# Altium footprint library M80-4001042.PcbLib: 1 footprints
Each footprint in its own frame and in the unit in brackets; x right, y up, seen from the top. Pads: shape width x height; smd on the part's side, far side on the other; paste and mask are expansions set on the pad; w line width, h text height; cw(c..) or ccw(c..) is an arc to the next point about the centre after c.
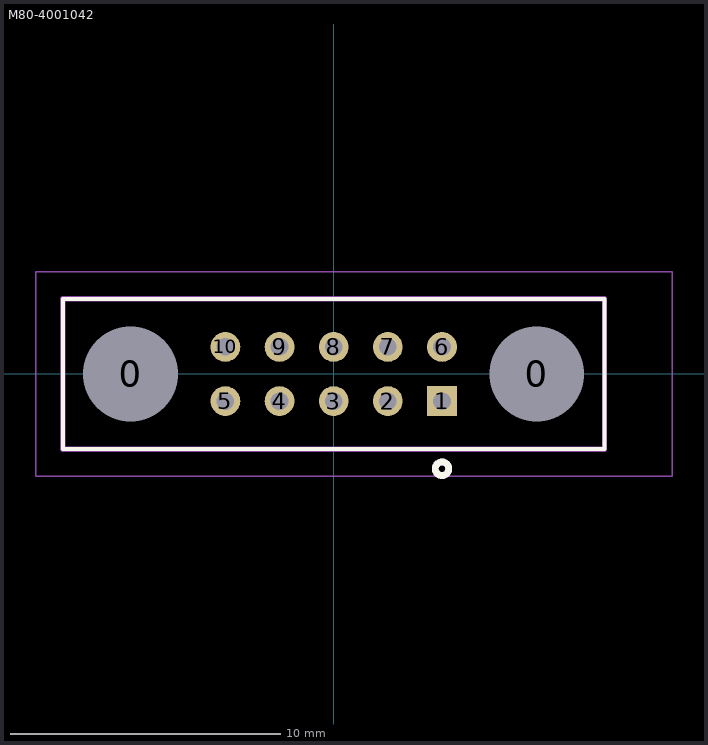
[diagram p0: the footprint, top view; thin cyan lines are the x and y axes]

## M80-4001042 [mm]
pads (12):
  round 1.75 hole 3.5 unplated: 0(-7.5,0) 0(7.5,0)
  rect 1.1x1.1 hole 0.65: 1(4,-1)
  round 1.1 hole 0.65: 2(2,-1) 3(0,-1) 4(-2,-1) 5(-4,-1) 6(4,1) 7(2,1) 8(0,1) 9(-2,1) 10(-4,1)
Top Overlay:
  circle w0.254: c4,-3.5 r0.25
  lines w0.15: -10,-2.775 10,-2.775 10,2.775 -10,2.775 -10,-2.775
Bottom Overlay:
  circle w0.254: c4,-2.275 r0.25
Mechanical 15:
  circle w0.254: c4,-3.5 r0.25
  lines w0.2: -10,-2.775 10,-2.775 10,2.775 -10,2.775 -10,-2.775
Mechanical 20:
  lines w0.05: -11,-3.775 12.5,-3.775 12.5,3.775 -11,3.775 -11,-3.775
3D body "M80-4001042_asm.stp": height 5.52, standoff -2.98, extent -9.99,-2.775 9.99,2.775